# EAGLE library part 2NBS08-7E (library resistor-bourns)
BOURNS RESISTOR NETWORK
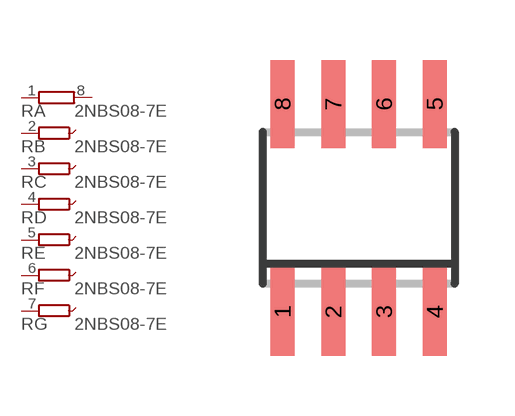
[diagram p12: symbol with the pads of SO8; footprint SO8]

Designator prefix R; gates A=R1NV0 B=R1NVXX C=R1NVXX D=R1NVXX E=R1NVXX F=R1NVXX G=R1NVXX

## 2NBS08-7E (OC_FARNELL: unknown; OC_NEWARK: unknown)  [SO8]
1  A:1  pas
2  B:1  pas
3  C:1  pas
4  D:1  pas
5  E:1  pas
6  F:1  pas
7  G:1  pas
8  A:2  pas

## Footprint SO8 (pad centres in mm)
BOURNS RESISTOR NETWORK
smd 0.6 x 2.2: 1 -1.905,-2.6; 2 -0.635,-2.6; 3 0.635,-2.6; 4 1.905,-2.6; 5 1.905,2.6; 6 0.635,2.6; 7 -0.635,2.6; 8 -1.905,2.6